# EAGLE library part PCF8575PWE4 (library PCF8575PWE4)
REMOTE 16-BIT I2C AND SMBus I/O EXPANDER
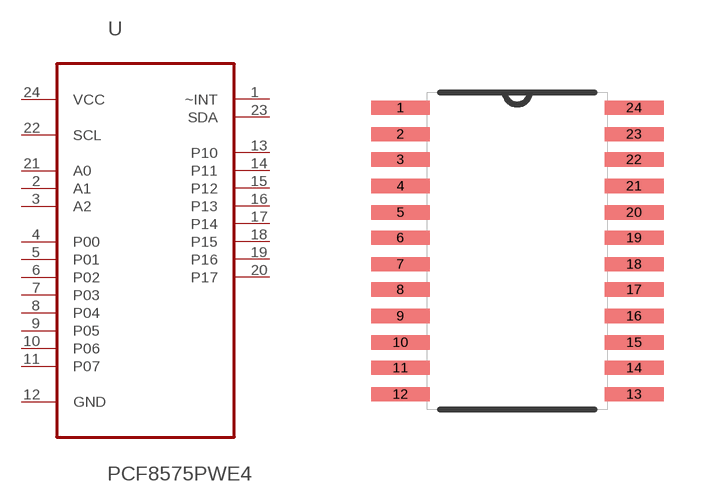
[diagram p0: symbol with the pads of SOP65P640X120-24N; footprint SOP65P640X120-24N]

Designator prefix U

## PCF8575PWE4 (AVAILABILITY: Good; DESCRIPTION: emote 16-Bit I2C and SMBus I/O Expander with Interrupt Output 24-TSSOP -40 to 85; MF: Texas Instruments; MP: PCF8575PWE4; PACKAGE: TSSOP-24 Texas Instruments; PRICE: 1.39 USD)  [SOP65P640X120-24N]
1  ~INT  out
2  A1  in
3  A2  in
4  P00
5  P01
6  P02
7  P03
8  P04
9  P05
10  P06
11  P07
12  GND  pas
13  P10
14  P11
15  P12
16  P13
17  P14
18  P15
19  P16
20  P17
21  A0  in
22  SCL  in
23  SDA
24  VCC  pwr

## Footprint SOP65P640X120-24N (pad centres in mm)
smd 1.473 x 0.356: 1 -2.921,3.581; 2 -2.921,2.921; 3 -2.921,2.286; 4 -2.921,1.626; 5 -2.921,0.965; 6 -2.921,0.33; 7 -2.921,-0.33; 8 -2.921,-0.965; 9 -2.921,-1.626; 10 -2.921,-2.286; 11 -2.921,-2.921; 12 -2.921,-3.581; 13 2.921,-3.581; 14 2.921,-2.921; 15 2.921,-2.286; 16 2.921,-1.626; 17 2.921,-0.965; 18 2.921,-0.33; 19 2.921,0.33; 20 2.921,0.965; 21 2.921,1.626; 22 2.921,2.286; 23 2.921,2.921; 24 2.921,3.581